# EAGLE library part AD7398 (library DAC)
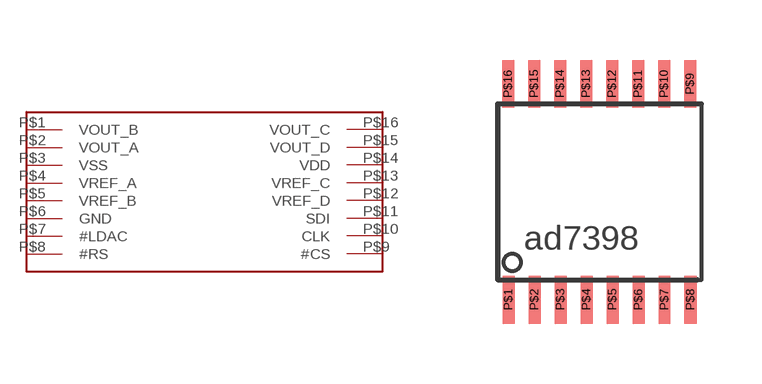
[diagram p0: symbol with the pads of TSSOP_AD7398; footprint TSSOP_AD7398]

Designator prefix -

## AD7398  [TSSOP_AD7398]
P$1  VOUT_B
P$2  VOUT_A
P$3  VSS
P$4  VREF_A
P$5  VREF_B
P$6  GND
P$7  #LDAC
P$8  #RS
P$9  #CS
P$10  CLK
P$11  SDI
P$12  VREF_D
P$13  VREF_C
P$14  VDD
P$15  VOUT_D
P$16  VOUT_C

## Footprint TSSOP_AD7398 (pad centres in mm)
smd 0.3 x 1.2: P$1 0,0; P$2 0.65,0; P$3 1.3,0; P$4 1.95,0; P$5 2.6,0; P$6 3.25,0; P$7 3.9,0; P$8 4.55,0; P$9 4.54,5.4; P$10 3.89,5.4; P$11 3.24,5.4; P$12 2.59,5.4; P$13 1.94,5.4; P$14 1.29,5.4; P$15 0.64,5.4; P$16 -0.01,5.4